# Altium schematic symbol library Connectors.SchLib: 119 symbols (part 1 of 2)
Pins are listed as number, name and electrical type; pins without a type are passive.

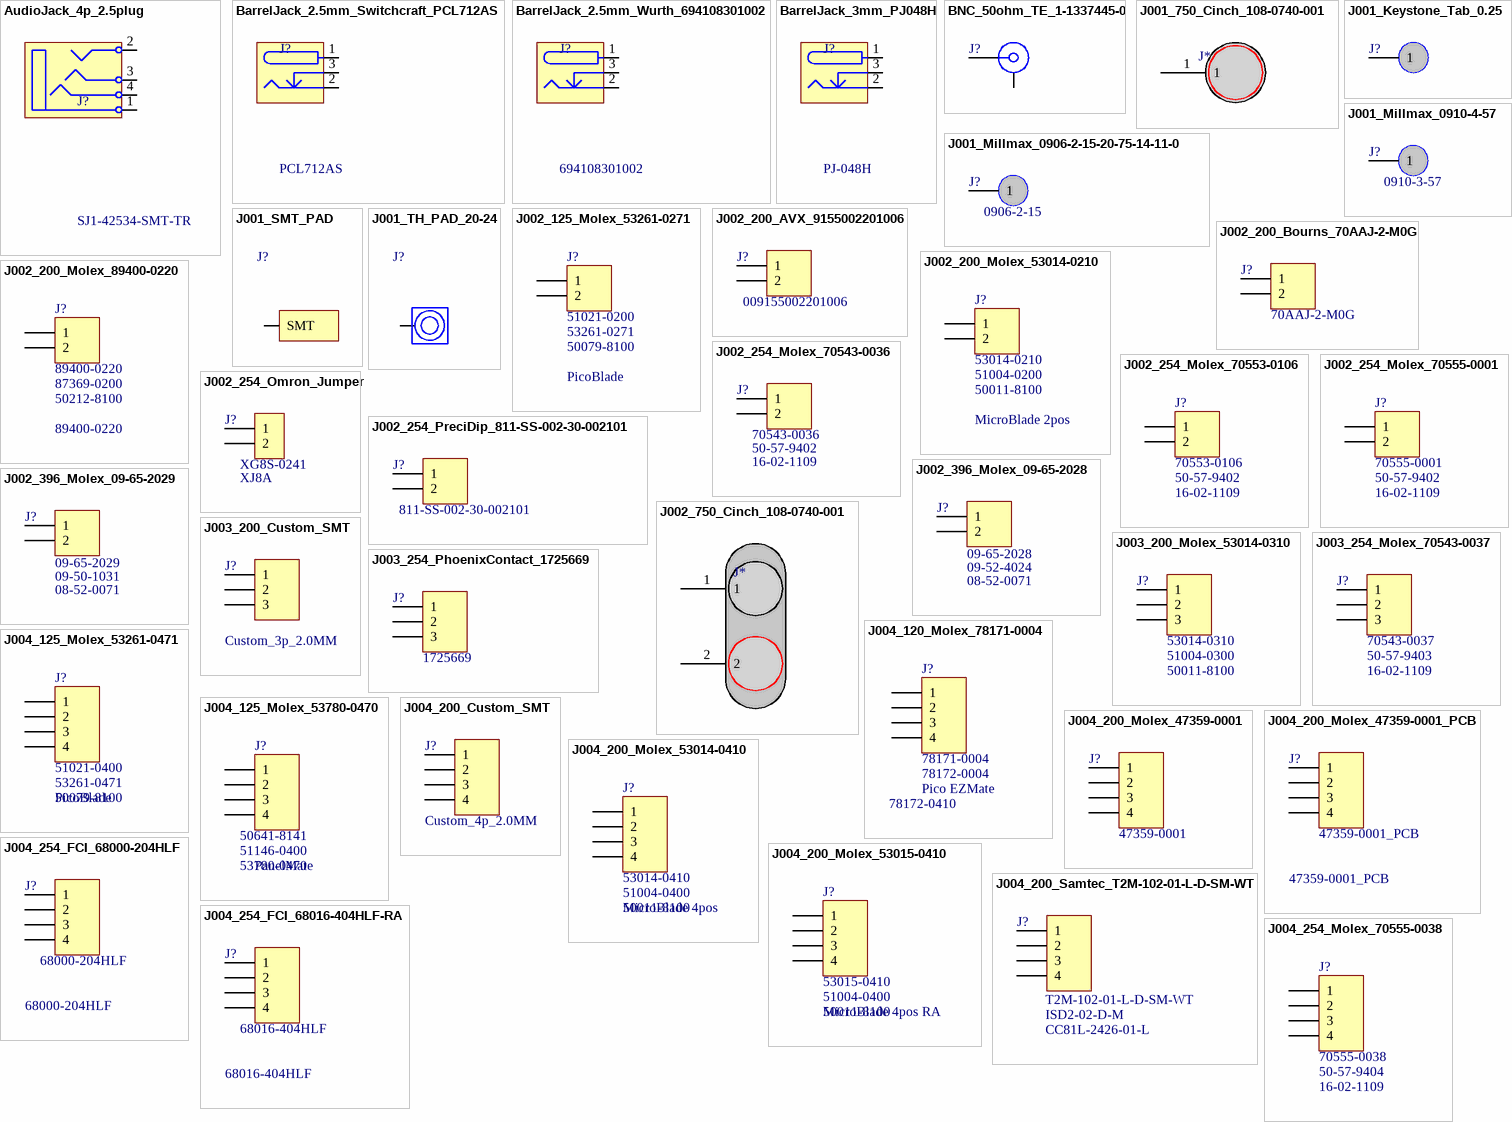
[diagram p0: symbols AudioJack_4p_2.5plug to J004_254_Molex_70555-0038]

## AudioJack_4p_2.5plug
designator J?, comment SJ1-42534-SMT-TR
Connector Audio Jack,4 conductor, 2.5mm, SMD; Manufacturer: CUI Inc.; HelpURL: http://www.cui.com/product/resource/sj1-4253x-smt-series.pdf; PackageDescription: SMT; Part Number: SJ1-42534-SMT-TR
footprint Audiojack_4pole_2.5mm (Audiojack 4 poles 2.5mm plug)
pins: 1, 2, 3, 4

## BarrelJack_2.5mm_Switchcraft_PCL712AS
designator J?, comment PCL712AS
Connector, Barrel Jack, 2.5mm, Sealed, Panel Mnt, TH; Manufacturer: Switchcraft; HelpURL: http://www.digikey.com/product-search/en?keywords=PCL712AS; PackageDescription: TH; Part Number: PCL712AS
footprint Switchcraft_PCL7xx (Barrel Jack, Sealed, Vertical TH)
pins: 1 (power), 2 (power), 3 (power)

## BarrelJack_2.5mm_Wurth_694108301002
designator J?, comment 694108301002
Connector, Barrel Jack, 2.5mm x 9.1mm, RA, TH; Manufacturer: Wurth Electronics; HelpURL: http://www.digikey.com/product-search/en?keywords=694108301002; PackageDescription: TH; Part Number: 694108301002
footprint Wurth_694108301002 (WR-DC_DC Power Jack_Right Angled_THT Center Pin ?2.5_Plug ID ?2.05_Plug OD ?5.5)
pins: 1 (power), 2 (power), 3 (power)

## BarrelJack_3mm_PJ048H
designator J?, comment PJ-048H
Connector, Barrel Jack, 3mm x 9.1mm, TH; Manufacturer: CUI Inc.; HelpURL: http://www.digikey.com/product-search/en?keywords=PJ-048H; PackageDescription: TH; Part Number: PJ-048H
footprint CUI_BarrelJack_3.0mm (Barrel Jack, 3.0mm x 9.1mm through hole)
pins: 1 (power), 2 (power), 3 (power)

## BNC_50ohm_TE_1-1337445-0
designator J?, comment 1-1337445-0  (value not drawn)
Connector, BNC, 50ohm, Straight Jack; Manufacturer: TE Connectivity; PackageDescription: TH; Notes: *; HelpURL: C:\Dropbox\Component Datasheets\(J) Connectors\TE_BNC50__1337445; ContactReel: *; ComponentLink1Description: Supplier Link; ComponentLink1URL: http://www.digikey.com/product-detail/en/1-1337445-0/A101972-ND/1889630; Mate Housing: BNC; ContactBulk: *; Part Number: 1-1337445-0
footprint BNC_Straight_Jack (BNC 50R Straight Jack, 12x12x15mm)
pins: 1, MH

## J001_750_Cinch_108-0740-001
designator J*  (value not drawn)
Single Banana Jack
footprint J001_750_Cinch_108-0740-001 (J001_175_Cinch_Banana-Jack)
pins: 1

## J001_Keystone_Tab_0.25
designator J?, comment 1289-ST  (value not drawn)
Connector, Quick Connect Tab, 0.25", Vertical; Manufacturer: Keystone Electronics; Notes: 0.25 Spade; PackageDescription: TH Vertical; ContactReel: *; ComponentLink1Description: Supplier Link; ComponentLink1URL: http://www.digikey.com/product-detail/en/1289-ST/36-1289-ST-ND/303578; ContactBulk: *; Part Number: 1289-ST
signal-integrity model Connector
footprint Keystone_TAB_VERT_0.25 (Quick Connect TAB 0.25")
pins: 1

## J001_Millmax_0906-2-15-20-75-14-11-0
designator J?, comment Notes: 0906-2-15  (hidden comment: 0906-2-15-20-75-14-11-0)
Connector, Spring Load, 0.197 Long, 0.055 Max Stroke, TH; Manufacturer: Mill-Max; PackageDescription: SMT; ContactReel: *; ComponentLink1Description: Supplier Link; ComponentLink1URL: http://www.digikey.com/product-detail/en/0906-2-15-20-75-14-11-0/ED8182-ND/1147050; ContactBulk: *; Part Number: 0906-2-15-20-75-14-11-0
signal-integrity model Connector
footprint MILL-MAX_1P-0906-2-15 (Pogo pin, Through Hole, 0.069 x 0.020)
pins: 1

## J001_Millmax_0910-4-57
designator J?, comment Notes: 0910-3-57  (hidden comment: 0910-3-57-20-75-14-11-0)
Connector, Spring Load, 0.217 SMD; Manufacturer: Mill-Max; PackageDescription: SMT; ContactReel: *; ComponentLink1Description: Supplier Link; ComponentLink1URL: http://www.digikey.com/product-detail/en/0910-3-57-20-75-14-11-0/ED90456TR-ND/2242384; ContactBulk: *; Part Number: 0910-3-57-20-75-14-11-0
signal-integrity model Connector
footprint MILL-MAX_1P-1.83 (Pogo pin, Surface Mount, 1.83DIA base)
footprint MILL-MAX_1P-1.83_PCB (Pogo pin, Surface Mount, 1.83DIA base)
pins: 1

## J001_SMT_PAD
designator J?, comment TP_Smt  (value not drawn)
Connector, 1pos, SMT Pad For Wires; Size: SMT
footprint SMT_PAD_125x50mil (Surface Mount Pad For Wire)
footprint SMT_PAD_100x25mil (Surface Mount Pad For Wire)
footprint SMT_PAD_100x50mil (Surface Mount Pad For Wire)
footprint SMT_PAD_150x80mil (Surface Mount Pad For Wire)
footprint SMT_PAD_150x60mil (Surface Mount Pad For Wire)
pins: 1 SMT

## J001_TH_PAD_20-24
designator J?, comment 35mil  (value not drawn)
Connector, 1pos, TH Pad For 20-24AWG Wires; Size: 35mil
footprint TH_20-24GA_WIRE (Through hole for 20-24AWG Wire)
pins: 1

## J002_125_Molex_53261-0271
designator J?, comment PicoBlade  Part Number: 53261-0271  Mate Housing: 51021-0200  ContactBulk: 50079-8100
Connector, header, 2pos, 1.25mm pitch; Manufacturer: Molex; ContactReel: 50079-8000; PackageDescription: SMT; Notes: *; HelpURL: C:\Dropbox\Component Datasheets\(J) Connectors\Molex_532610271_1.25mmp.pdf; ComponentLink1Description: Supplier Link; ComponentLink1URL: http://www.digikey.com/product-detail/en/0532610271/WM7620CT-ND/699107
signal-integrity model Connector
footprint Molex_2p-1.25_53261-0271 (Connector, PicoBlade header, surface mount, RA, 2 circuits, 1.25mm pitch)
pins: 1, 2

## J002_200_AVX_9155002201006
designator J?, comment 009155002201006
Connector, Spring Loaded, 2pos, 2.5mm pitch; Manufacturer: AVX; Mate Housing: PCB; PackageDescription: SMT; Notes: *; HelpURL: C:\Dropbox\Component Datasheets\(J) Connectors\AVX_battery-9155-1.pdf; ComponentLink1Description: Supplier Link; ComponentLink1URL: http://www.digikey.com/product-detail/en/009155002201006/478-4682-1-ND/1687181; Part Number: 009155002201006
footprint AVX_2P_2.5_9155 (Connector Battery 2pos 2.5mmp)
pins: 1, 2

## J002_200_Bourns_70AAJ-2-M0G
designator J?, comment 70AAJ-2-M0G
Connector, Spring Loaded, 2pos, 2.54mm pitch; Manufacturer: Bourns; Mate Housing: PCB; PackageDescription: SMT; Notes: *; HelpURL: C:\Dropbox\Component Datasheets\(J) Connectors\Bourns_70AAM.pdf; ComponentLink1Description: Supplier Link; ComponentLink1URL: http://www.digikey.com/product-detail/en/70AAJ-2-M0G/70AAJ-2-M0GCT-ND/3437846; Part Number: 70AAJ-2-M0G
footprint Bourns_2P-2.54_70AAJ-2-M0G (Connector Battery 2pos 2.54mmp)
pins: 1, 2

## J002_200_Molex_53014-0210
designator J?, comment MicroBlade 2pos  Part Number: 53014-0210  Mate Housing: 51004-0200  ContactBulk: 50011-8100
Connector, header, 2pos, 2.00mm pitch MicroBlade; Manufacturer: Molex; ContactReel: 50011-8000; PackageDescription: SMT; Notes: *; HelpURL: C:\Dropbox\Component Datasheets\(J) Connectors\Molex_530140610_sd.pdf; ComponentLink1Description: Supplier Link; ComponentLink1URL: http://www.digikey.com/product-search/en?vendor=0&keywords=53014-0210
footprint Molex_2P-2.00_53014-0210 (Connector Header 2pos 2mmp Vertical through hole)
pins: 1, 2

## J002_200_Molex_89400-0220
designator J?, comment 89400-0220  Mate Housing: 87369-0200  ContactBulk: 50212-8100
Connector, header, 2pos, 2.00mm pitch; Manufacturer: Molex; PackageDescription: TH; Notes: *; HelpURL: http://www.molex.com/pdm_docs/sd/894000220_sd.pdf; ComponentLink1Description: Supplier Link; ComponentLink1URL: http://www.digikey.com/product-detail/en/molex-llc/0894000220/WM4340-ND/2421271; Part Number: 89400-0220
footprint Molex_2P-2.00_89400-0220 (Connector Header 2pos 2mmp Vertical through hole)
pins: 1, 2

## J002_254_Molex_70543-0036
designator J?, comment Mate Housing: 50-57-9402  ContactBulk: 16-02-1109  (hidden comment: 70543-0036)
Connector, header, 2pos, 2.54mm pitch C-grid, w/pins; Manufacturer: Molex; PackageDescription: TH; Notes: *; HelpURL: http://www.molex.com/pdm_docs/sd/705550001_sd.pdf; ContactReel: 16-02-0082; ComponentLink1Description: Supplier Link; ComponentLink1URL: http://www.digikey.com/product-detail/en/molex-llc/0705430036/WM4824-ND/313739; Part Number: 70543-0036
footprint Molex_2P-2.54_70543-0036 (Connector Header 2pos 2.54mmp vertical through hole)
pins: 1, 2

## J002_254_Molex_70553-0106
designator J?, comment Mate Housing: 50-57-9402  ContactBulk: 16-02-1109  (hidden comment: 70553-0106)
Connector, header, 2pos, 2.54mm pitch C-grid; Manufacturer: Molex; PackageDescription: SMT; Notes: *; HelpURL: http://www.molex.com/pdm_docs/sd/705530106_sd.pdf; ContactReel: 16-02-0082; ComponentLink1Description: Supplier Link; ComponentLink1URL: http://www.digikey.com/product-search/en?keywords=70553-0106; Part Number: 70553-0106
footprint Molex_2P-2.54_70553-0106 (Connector Header 2pos 2.54mmp right angle through hole)
pins: 1, 2

## J002_254_Molex_70555-0001
designator J?, comment Mate Housing: 50-57-9402  ContactBulk: 16-02-1109  (hidden comment: 70555-0001)
Connector, header, 2pos, 2.54mm pitch C-grid, w/pins; Manufacturer: Molex; PackageDescription: SMT; Notes: *; HelpURL: http://www.molex.com/pdm_docs/sd/705550001_sd.pdf; ContactReel: 16-02-0082; ComponentLink1Description: Supplier Link; ComponentLink1URL: http://www.digikey.com/product-detail/en/molex-llc/0705550001/WM4164-ND/1643398; Part Number: 70555-0001
footprint Molex_2P-2.54_70555-0001 (Connector Header 2pos 2.54mmp right angle through hole)
pins: 1, 2

## J002_254_Omron_Jumper
designator J?, comment Mate Housing: XJ8A  (hidden comment: XG8S-0241)
Connector, header, 2pos, 2.54mm, Jumper; Manufacturer: Omron Electronics; PackageDescription: TH; Notes: *; HelpURL: http://www.omron.com/ecb/products/pdf/en-xj8.pdf; ComponentLink1Description: Supplier Link; ComponentLink1URL: http://www.digikey.com/product-detail/en/omron-electronics-inc-emc-div/XG8S-0241/Z5374-ND/4947394; Part Number: XG8S-0241
footprint Generic_2P-2.54 (Connector; Header; 2 Position)
pins: 1, 2

## J002_254_PreciDip_811-SS-002-30-002101
designator J?, comment 811-SS-002-30-002101
Connector, Spring Loaded Pogo, 2pos, 2.54mm pitch; Manufacturer: Preci-Dip; Mate Housing: PCB; PackageDescription: SMT; Notes: *; HelpURL: http://www.precidip.com/en/Products/Spring-Loaded-Connectors/pview/811-SS-NNN-30-XXX101.html; ComponentLink1Description: Supplier Link; ComponentLink1URL: http://www.digikey.com/product-search/en?keywords=811-SS-002-30-002101; Part Number: 811-SS-002-30-002101
footprint PreciDip_2P_811-SS-002 (Connector Spring Loaded 2pos 2.54mmp)
pins: 1, 2

## J002_396_Molex_09-65-2028
designator J?, comment Mate Housing: 09-52-4024  ContactBulk: 08-52-0071  (hidden comment: 09-65-2028)
Connector, header, 2pos, 3.96mm pitch, Unshrouded, Friction Lock; Manufacturer: Molex; ContactReel: NA; PackageDescription: TH; Notes: *; HelpURL: http://www.molex.com/pdm_docs/sd/009652028_sd.pdf; ComponentLink1Description: Supplier Link; ComponentLink1URL: http://www.digikey.com/product-detail/en/molex-llc/0009652028/WM18823-ND/1220238; Part Number: 09-65-2028
footprint Molex_2P-3.96_09-65-2028 (Connector Header 2pos 3.96mmp vertical through hole)
pins: 1, 2

## J002_396_Molex_09-65-2029
designator J?, comment Mate Housing: 09-50-1031  ContactBulk: 08-52-0071  (hidden comment: 09-65-2029)
Connector, header, 2pos, 3.96mm pitch, Unshrouded, Missing Pin, Friction Lock; Manufacturer: Molex; ContactReel: NA; PackageDescription: TH; Notes: *; HelpURL: http://www.molex.com/pdm_docs/sd/009652029_sd.pdf; ComponentLink1Description: Supplier Link; ComponentLink1URL: http://www.digikey.com/product-detail/en/molex-llc/0009652029/WM2338-ND/2405448; Part Number: 09-65-2029
footprint Molex_2P-3.96_09-65-2029 (Connector Header 2pos 3.96mmp vertical through hole missing pin)
pins: 1, 2

## J002_750_Cinch_108-0740-001
designator J*  (value not drawn)
Dual Banana Jack
footprint J002_750_Cinch_108-0740-001 (J002_750_Cinch_Banana-Jack)
pins: 1, 2

## J003_200_Custom_SMT
designator J?, comment Part Number: Custom_3p_2.0MM  (hidden comment: custom_3p_2mm)
Connector, SMT, 3pos, 2.0mm; Manufacturer: Custom; ContactBulk: NA; PackageDescription: SMT; Notes: *
footprint Custom_3p-2MM (Custom 3p SMT Pad For Wire)
pins: 1, 2, 3

## J003_200_Molex_53014-0310
designator J?, comment Mate Housing: 51004-0300  ContactBulk: 50011-8100  (hidden comment: 53014-0310)
Connector, header, 3pos, 2.00mm pitch MicroBlade; Manufacturer: Molex; ContactReel: 50011-8000; PackageDescription: SMT; Notes: *; HelpURL: http://www.molex.com/pdm_docs/sd/530140210_sd.pdf; ComponentLink1Description: Supplier Link; ComponentLink1URL: http://www.digikey.com/product-search/en?keywords=53014-0310; Part Number: 53014-0310
footprint Molex_3P-2.00_53014-0310 (Connector Header 3pos 2mmp Vertical through hole)
pins: 1, 2, 3

## J003_254_Molex_70543-0037
designator J?, comment Mate Housing: 50-57-9403  ContactBulk: 16-02-1109  (hidden comment: 70543-0037)
Connector, header, 3pos, Vert, 2.54mm pitch C-grid; Manufacturer: Molex; PackageDescription: SMT; Notes: *; HelpURL: http://www.molex.com/pdm_docs/sd/705430037_sd.pdf; ContactReel: 16-02-0082; ComponentLink1Description: Supplier Link; ComponentLink1URL: http://www.digikey.com/product-detail/en/molex-llc/0705430037/WM4825-ND/313740; Part Number: 70543-0037
footprint Molex_3P-2.54_70543-0037 (Connector Header 3pos 2.54mmp vertical through hole)
pins: 1, 2, 3

## J003_254_PhoenixContact_1725669
designator J?, comment Part Number: 1725669  (hidden comment: custom_3p_2mm)
Connector, Terminal Block, 3pos, 2.54mm; Manufacturer: Phoenix Contact; Mate Housing: Wires; PackageDescription: TH; Notes: *; ComponentLink1Description: Supplier Link; ComponentLink1URL: http://www.digikey.com/product-search/en?vendor=0&keywords=1725669; ContactBulk: *; ContactReel: *
footprint PHOENIX_3P-2.54_1725669 (Connector, Terminal Block, 3 Position)
pins: 1, 2, 3

## J004_120_Molex_78171-0004
designator J?, comment Pico EZMate  ContactReel: 78172-0410  Part Number: 78171-0004  Mate Housing: 78172-0004
Connector, header, 4pos, 1.2mm pitch PicoEZMate; Manufacturer: Molex; ContactBulk: NA; PackageDescription: SMT; Notes: *; HelpURL: C:\Dropbox\Component Datasheets\(J) Connectors\Molex_781710004.pdf; ComponentLink1Description: Supplier Link; ComponentLink1URL: http://www.digikey.com/product-detail/en/0781710004/WM4460CT-ND/2424929
pins: 1, 2, 3, 4

## J004_125_Molex_53261-0471
designator J?, comment PicoBlade  Part Number: 53261-0471  Mate Housing: 51021-0400  ContactBulk: 50079-8100
Connector, header, 4pos, 1.25mm pitch; Manufacturer: Molex; ContactReel: 50079-8000; PackageDescription: SMT; Notes: *; HelpURL: C:\Dropbox\Component Datasheets\(J) Connectors\Molex_532610271_1.25mmp.pdf; ComponentLink1Description: Supplier Link; ComponentLink1URL: http://www.digikey.com/product-detail/en/0532610471/WM7622CT-ND/699109
signal-integrity model Connector
footprint Molex_4p-1.25_53261-0471 (Connector, PicoBlade header, surface mount, RA, 4 circuits, 1.25mm pitch)
pins: 1, 2, 3, 4

## J004_125_Molex_53780-0470
designator J?, comment PanelMate  Part Number: 53780-0470  Mate Housing: 51146-0400  ContactBulk: 50641-8141
Connector, header, 4pos, 1.25mm pitch; Manufacturer: Molex; ContactReel: 50641-8041; PackageDescription: SMT; Notes: *; HelpURL: C:\Dropbox\Component Datasheets\(J) Connectors\Molex_53780-xxxx.pdf; ComponentLink1Description: Supplier Link; ComponentLink1URL: http://www.digikey.com/product-detail/en/0537800470/WM7660CT-ND/711493
pins: 1, 2, 3, 4

## J004_200_Custom_SMT
designator J?, comment Part Number: Custom_4p_2.0MM  (hidden comment: custom_3p_2mm)
Connector, SMT, 4pos, 2.0mm; Manufacturer: Custom; ContactBulk: NA; PackageDescription: SMT; Notes: *
footprint Custom_4p-2MM (Custom 4p SMT Pad For Wire)
pins: 1, 2, 3, 4

## J004_200_Molex_47359-0001
designator J?, comment 47359-0001
Connector, Battery, 4pos, 2.00mm pitch; Manufacturer: Molex; PackageDescription: SMT; Notes: *; HelpURL: C:\Dropbox\Component Datasheets\(J) Connectors\Molex_473590001_sd.pdf; ContactReel: *; ComponentLink1Description: Supplier Link; ComponentLink1URL: http://www.mouser.com/ProductDetail/Molex/47359-0001/?qs=%2fha2pyFadugrTonzSuwdMWfHugKuxF1oqURBYPSAB0AYN8o1e8hsRA%3d%3d; Mate Housing: *; ContactBulk: *; Part Number: 47359-0001
footprint Molex_4P-2.00_47359-0001 (Connector Battery 4pos 2mmp SMT)
pins: 1, 2, 3, 4

## J004_200_Molex_47359-0001_PCB
designator J?, comment 47359-0001_PCB
Connector, PCB Battery, 4pos, 2.00mm pitch; Manufacturer: Molex; PackageDescription: SMT; Notes: *; HelpURL: C:\Dropbox\Component Datasheets\(J) Connectors\Molex_473590001_sd.pdf; ContactReel: *; ComponentLink1Description: Supplier Link; ComponentLink1URL: http://www.mouser.com/ProductDetail/Molex/47359-0001/?qs=%2fha2pyFadugrTonzSuwdMWfHugKuxF1oqURBYPSAB0AYN8o1e8hsRA%3d%3d; Mate Housing: 47359-0001; ContactBulk: *; Part Number: 47359-0001_PCB
pins: 1, 2, 3, 4

## J004_200_Molex_53014-0410
designator J?, comment MicroBlade 4pos  Part Number: 53014-0410  Mate Housing: 51004-0400  ContactBulk: 50011-8100
Connector, header, 4pos, 2.00mm pitch MicroBlade; Manufacturer: Molex; ContactReel: 50011-8000; PackageDescription: SMT; Notes: *; HelpURL: C:\Dropbox\Component Datasheets\(J) Connectors\Molex_530140610_sd.pdf; ComponentLink1Description: Supplier Link; ComponentLink1URL: http://www.digikey.com/product-search/en?x=0&y=0&lang=en&site=us&KeyWords=53014-0410
footprint Molex_4P-2.00_53014-0410 (Connector Header 4pos 2mmp Vertical through hole)
pins: 1, 2, 3, 4

## J004_200_Molex_53015-0410
designator J?, comment MicroBlade 4pos RA  Part Number: 53015-0410  Mate Housing: 51004-0400  ContactBulk: 50011-8100
Connector, header, 4pos, 2.00mm pitch, RA, MicroBlade; Manufacturer: Molex; ContactReel: 50011-8000; PackageDescription: TH; Notes: *; HelpURL: C:\Dropbox\Component Datasheets\(J) Connectors\Molex_530150410_sd.pdf; ComponentLink1Description: Supplier Link; ComponentLink1URL: http://www.digikey.com/product-search/en?x=0&y=0&lang=en&site=us&KeyWords=53015-0410
footprint Molex_4P-2.00_RA_53015-0410 (Connector Header 4pos 2mmp RA through hole)
pins: 1, 2, 3, 4

## J004_200_Samtec_T2M-102-01-L-D-SM-WT
designator J?, comment Mate Housing: ISD2-02-D-M  ContactBulk: CC81L-2426-01-L  (hidden comment: T2M-102-01-L-D-SM-WT)
Connector, Header, 4pos (2x2), 2.00mm Pitch, Samtec T2M; ContactReel: CC81R-2426-01-L; PackageDescription: SMT; Notes: *; Manufacturer: Samtec; HelpURL: https://www.samtec.com/products/t2m; ComponentLink1Description: Supplier Link; Part Number: T2M-102-01-L-D-SM-WT
footprint Samtec_4P-2.00_T2M_SMT (Connector Header 4pos dual row 2.0mmp SMT)
pins: 1, 2, 3, 4

## J004_254_FCI_68000-204HLF
designator J?, comment 68000-204HLF
Connector, 4pos, 2.54mm pitch, header, TH; Manufacturer: FCI; ContactReel: NA; PackageDescription: TH; Notes: *; HelpURL: C:\Dropbox\Component Datasheets\(J) Connectors\FCI_68000-412HLF.pdf; ComponentLink1Description: Supplier Link; ComponentLink1URL: http://www.digikey.com/product-detail/en/68000-204HLF/609-3255-ND/1878484; Mate Housing: NA; ContactBulk: NA; Part Number: 68000-204HLF
footprint Generic_4P-2.54 (Connector; Header; 4 Position)
pins: 1, 2, 3, 4

## J004_254_FCI_68016-404HLF-RA
designator J?, comment 68016-404HLF
Connector, 4pos, 2.54mm pitch, header, TH, R/A; Manufacturer: FCI; ContactReel: NA; PackageDescription: TH; Notes: *; ComponentLink1Description: Supplier Link; ComponentLink1URL: http://www.digikey.com/product-detail/en/amphenol-fci/68016-404HLF/609-3407-ND/1491751; Mate Housing: NA; ContactBulk: NA; Part Number: 68016-404HLF
footprint Generic_4P-2.54 R/A (Connector; Header; 4 Position)
pins: 1, 2, 3, 4

## J004_254_Molex_70555-0038
designator J?, comment Mate Housing: 50-57-9404  ContactBulk: 16-02-1109  (hidden comment: 70555-0038)
Connector, header, 4pos, 2.54mm pitch C-grid, w/pins; Manufacturer: Molex; PackageDescription: SMT; Notes: *; HelpURL: http://www.molex.com/pdm_docs/sd/705550001_sd.pdf; ContactReel: 16-02-0082; ComponentLink1Description: Supplier Link; ComponentLink1URL: http://www.digikey.com/product-detail/en/molex-llc/0705550038/WM4177-ND/1643411; Part Number: 70555-0038
footprint Molex_4P-2.54_70555-0038 (Connector Header 4pos 2.54mmp right angle through hole)
pins: 1, 2, 3, 4

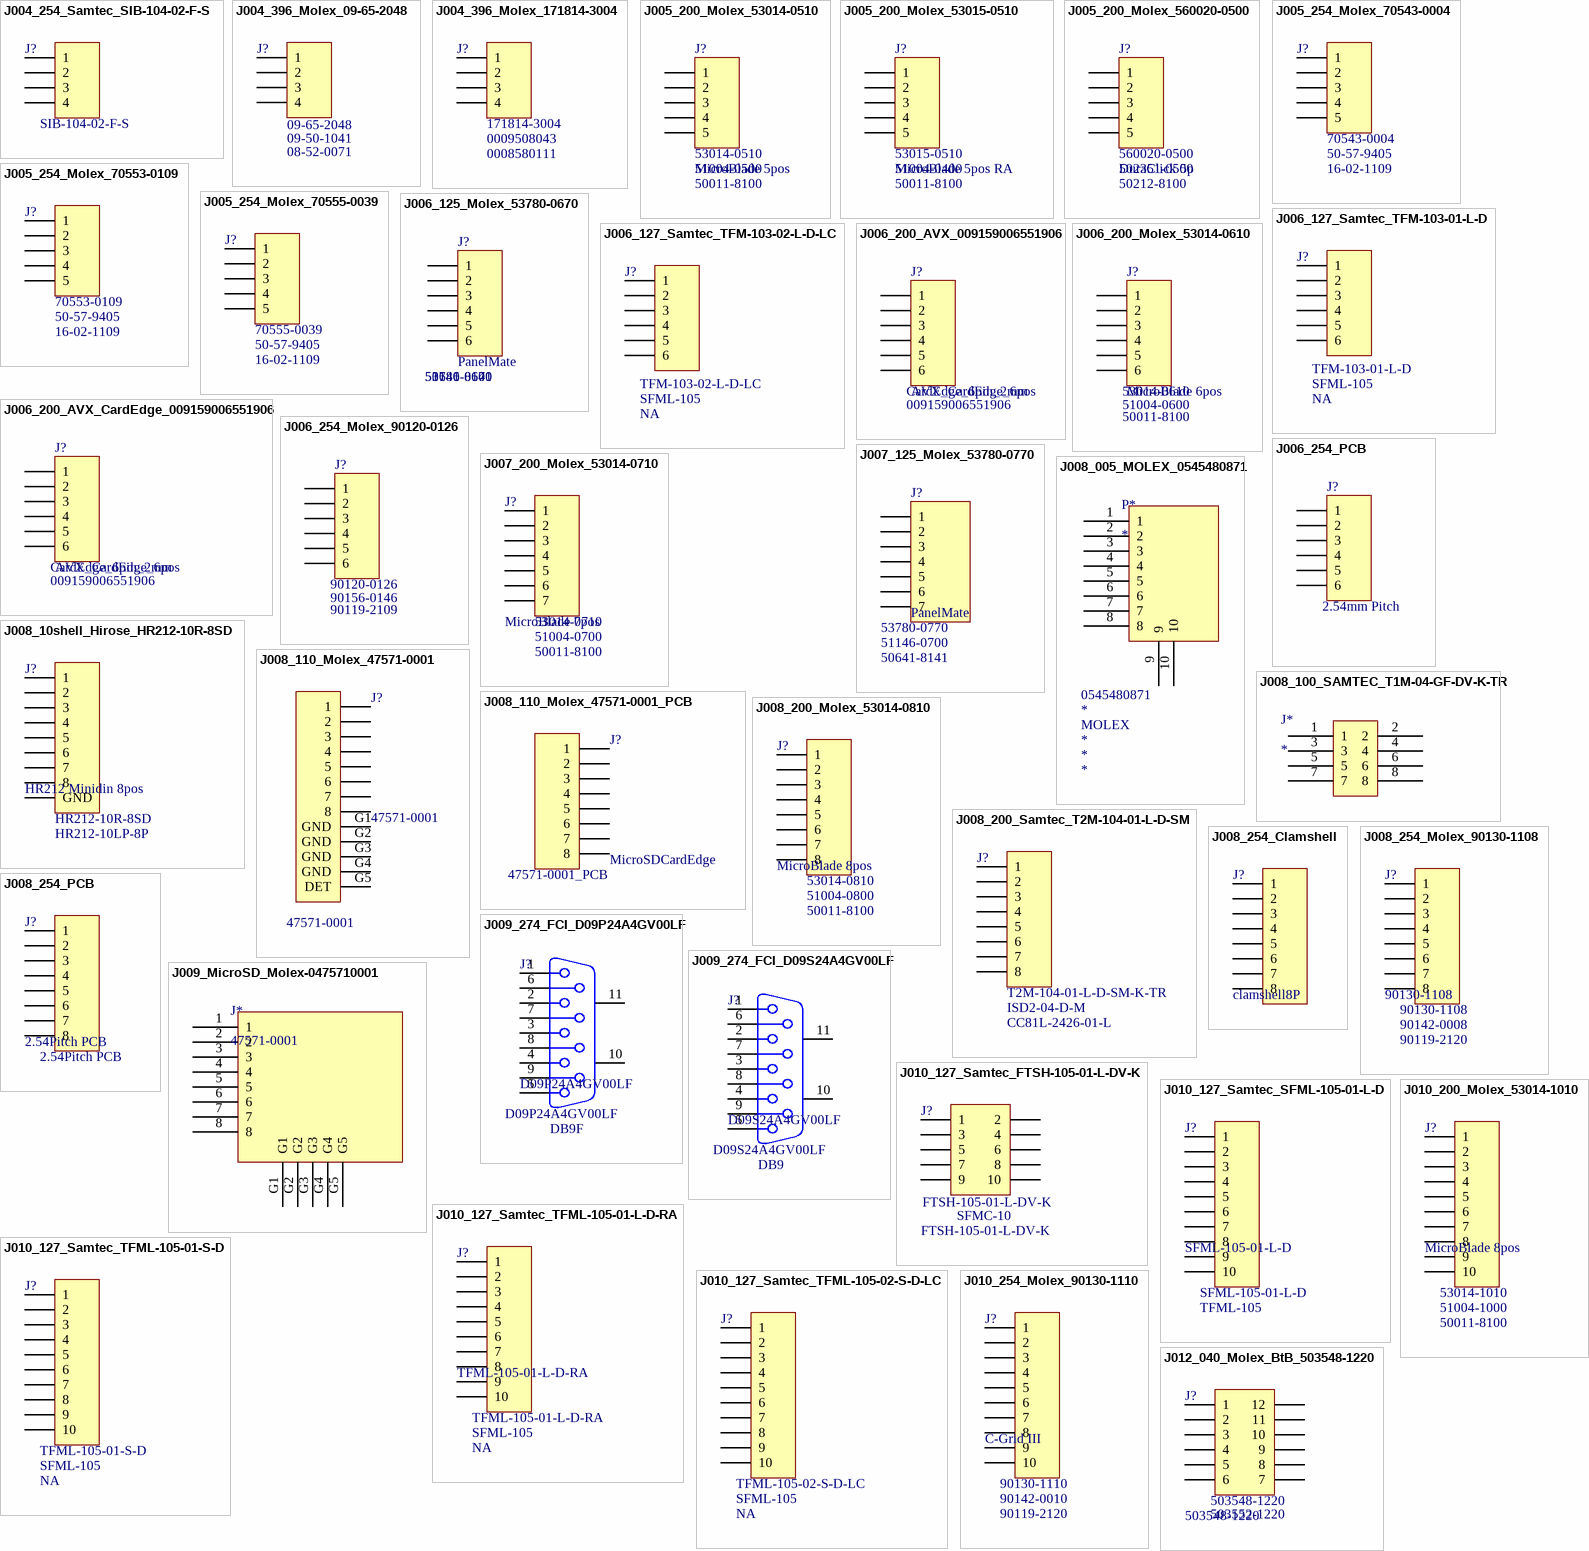
[diagram p1: symbols J004_254_Samtec_SIB-104-02-F-S to J012_040_Molex_BtB_503548-1220]

## J004_254_Samtec_SIB-104-02-F-S
designator J?, comment SIB-104-02-F-S
Connector, Spring, 4pos, 2.54mm pitch; Manufacturer: Samtec; Mate Housing: PCB; PackageDescription: SMT; Notes: *; HelpURL: http://suddendocs.samtec.com/prints/sib-1xx-xx-xx-s-xx-xx-mkt.pdf; ContactReel: *; ComponentLink1Description: Supplier Link; ComponentLink1URL: http://www.digikey.com/product-search/en?keywords=SIB-104-02-F-S; ContactBulk: *; Part Number: SIB-104-02-F-S
footprint Samtec_4P-2.54_SIB-104-02-F-S (Connector Spring  4pos 2.54mmp SMT)
pins: 1, 2, 3, 4

## J004_396_Molex_09-65-2048
designator J?, comment Mate Housing: 09-50-1041  ContactBulk: 08-52-0071  (hidden comment: 09-65-2048)
Connector, header, 4pos, 3.96mm pitch, Unshrouded, Missing Pin, Friction Lock; Manufacturer: Molex; ContactReel: NA; PackageDescription: TH; Notes: *; HelpURL: http://www.molex.com/pdm_docs/sd/009652048_sd.pdf; ComponentLink1Description: Supplier Link; ComponentLink1URL: http://www.digikey.com/product-detail/en/molex-llc/0009652048/WM18825-ND/1220240; Part Number: 09-65-2048
footprint Molex_4P-3.96_09-65-2048 (Connector Header 4pos 3.96mmp vertical through hole missing pin)
pins: 1, 2, 3, 4

## J004_396_Molex_171814-3004
designator J?, comment Mate Housing: 0009508043  ContactBulk: 0008580111  (hidden comment: 171814-3004)
Connector, header, 4pos, 3.96mm pitch, RA, Unshrouded; Manufacturer: Molex; ContactReel: NA; PackageDescription: TH; Notes: *; HelpURL: http://www.molex.com/molex/products/datasheet.jsp?part=active/1718143004_PCB_HEADERS.xml; ComponentLink1Description: Supplier Link; ComponentLink1URL: http://www.digikey.com/product-detail/en/molex-llc/1718143004/WM10570CT-ND/4879284; Part Number: 171814-3004
footprint Molex_4P-3.96_1718143004 (Connector Header 4pos 3.96mmp right angle through hole)
pins: 1, 2, 3, 4

## J005_200_Molex_53014-0510
designator J?, comment MicroBlade 5pos  Part Number: 53014-0510  Mate Housing: 51004-0500  ContactBulk: 50011-8100
Connector, header, 5pos, 2.00mm pitch MicroBlade; Manufacturer: Molex; ContactReel: 50011-8000; PackageDescription: SMT; Notes: *; HelpURL: C:\Dropbox\Component Datasheets\(J) Connectors\Molex_530140610_sd.pdf; ComponentLink1Description: Supplier Link; ComponentLink1URL: http://www.digikey.com/product-search/en?vendor=0&keywords=53014-0510
footprint Molex_5P-2.00_53014-0510 (Connector Header 5pos 2mmp Vertical through hole)
pins: 1, 2, 3, 4, 5

## J005_200_Molex_53015-0510
designator J?, comment MicroBlade 5pos RA  Part Number: 53015-0510  Mate Housing: 51004-0400  ContactBulk: 50011-8100
Connector, header, 5pos, 2.00mm pitch, RA, MicroBlade; Manufacturer: Molex; ContactReel: 50011-8000; PackageDescription: TH; Notes: *; HelpURL: C:\Dropbox\Component Datasheets\(J) Connectors\Molex_530150410_sd.pdf; ComponentLink1Description: Supplier Link; ComponentLink1URL: http://www.digikey.com/product-search/en?WT.z_header=search_go&lang=en&site=us&keywords=53015-0510&x=0&y=0&formaction=on
footprint Molex_5P-2.00_RA_53015-0510 (Connector Header 5pos 2mmp RA through hole)
pins: 1, 2, 3, 4, 5

## J005_200_Molex_560020-0500
designator J?, comment DuraClick 5p  Part Number: 560020-0500  Mate Housing: 502351-0500  ContactBulk: 50212-8100
Connector, header, 5pos, 2.00mm pitch Duraclick, SMT; Manufacturer: Molex; ContactReel: 50212-8000; PackageDescription: SMT; Notes: *; HelpURL: C:\Dropbox\Component Datasheets\(J) Connectors\Molex_5600200600.pdf; ComponentLink1Description: Supplier Link; ComponentLink1URL: http://www.digikey.com/product-search/en?vendor=0&keywords=53014-0510
footprint Molex_5P-2.00_560020-0500 (Connector Header 5pos 2mmp Vertical SMT)
pins: 1, 2, 3, 4, 5

## J005_254_Molex_70543-0004
designator J?, comment Mate Housing: 50-57-9405  ContactBulk: 16-02-1109  (hidden comment: 70543-0004)
Connector, header, 5pos, 2.54mm pitch C-grid, Vert; Manufacturer: Molex; PackageDescription: SMT; Notes: *; HelpURL: http://www.molex.com/pdm_docs/sd/705430001_sd.pdf; ContactReel: 16-02-0082; ComponentLink1Description: Supplier Link; ComponentLink1URL: http://www.digikey.com/product-search/en?keywords=70543-0004; Part Number: 70543-0004
footprint Molex_5P-2.54_70543-0004 (Connector Header 5pos 2.54mmp vertical through hole)
pins: 1, 2, 3, 4, 5

## J005_254_Molex_70553-0109
designator J?, comment Mate Housing: 50-57-9405  ContactBulk: 16-02-1109  (hidden comment: 70553-0109)
Connector, header, 5pos, 2.54mm pitch C-grid; Manufacturer: Molex; PackageDescription: SMT; Notes: *; HelpURL: http://www.molex.com/pdm_docs/sd/705530106_sd.pdf; ContactReel: 16-02-0082; ComponentLink1Description: Supplier Link; ComponentLink1URL: http://www.digikey.com/product-search/en?keywords=70553-0109; Part Number: 70553-0109
footprint Molex_5P-2.54_70553-0109 (Connector Header 5pos 2.54mmp right angle through hole)
pins: 1, 2, 3, 4, 5

## J005_254_Molex_70555-0039
designator J?, comment Mate Housing: 50-57-9405  ContactBulk: 16-02-1109  (hidden comment: 70555-0039)
Connector, header, 5pos, 2.54mm pitch C-grid, w/pins; Manufacturer: Molex; PackageDescription: SMT; Notes: *; HelpURL: http://www.molex.com/pdm_docs/sd/705550001_sd.pdf; ContactReel: 16-02-0082; ComponentLink1Description: Supplier Link; ComponentLink1URL: http://www.digikey.com/product-detail/en/molex-llc/0050579405/WM2903-ND/115035; Part Number: 70555-0039
footprint Molex_5P-2.54_70555-0039 (Connector Header 5pos 2.54mmp right angle through hole)
pins: 1, 2, 3, 4, 5

## J006_125_Molex_53780-0670
designator J?, comment PanelMate  Part Number: 53780-0670  Mate Housing: 51146-0600  ContactBulk: 50641-8141
Connector, header, 6pos, 1.25mm pitch; Manufacturer: Molex; ContactReel: 50641-8041; PackageDescription: SMT; Notes: *; HelpURL: C:\Dropbox\Component Datasheets\(J) Connectors\Molex_53780-xxxx.pdf; ComponentLink1Description: Supplier Link; ComponentLink1URL: http://www.digikey.com/product-detail/en/0537800670/WM7603CT-ND/699063
footprint Molex_6p-1.25_53780-0670 (Molex Panelmate Connector 6p 1.25mm pitch)
pins: 1, 2, 3, 4, 5, 6

## J006_127_Samtec_TFM-103-01-L-D
designator J?, comment Mate Housing: SFML-105  ContactBulk: NA  (hidden comment: TFM-103-01-L-D)
Connector, header, 6pos, 1.27mm pitch, Vertical, TH; Manufacturer: Samtec; PackageDescription: Through hole; Notes: *; HelpURL: http://suddendocs.samtec.com/prints/tfm-1xx-xx-x-s-ra-mkt.pdf; ContactReel: NA; ComponentLink1Description: Manufacturer Link; ComponentLink1URL: https://www.samtec.com/products/tfm#related; Part Number: TFM-103-01-L-D
footprint Samtec_6P-1.27_TFM-103_TH (Connector Header 6pos dual row 1.27mmp Through Hole No Locking clip)
pins: 1, 2, 3, 4, 5, 6

## J006_127_Samtec_TFM-103-02-L-D-LC
designator J?, comment Mate Housing: SFML-105  ContactBulk: NA  (hidden comment: TFM-103-02-L-D-LC)
Connector, header, 6pos, 1.27mm pitch, Vertical, TFM; Manufacturer: Samtec; PackageDescription: SMT; Notes: *; HelpURL: http://suddendocs.samtec.com/prints/tfm-1xx-xx-x-s-ra-mkt.pdf; ContactReel: NA; ComponentLink1Description: Manufacturer Link; ComponentLink1URL: https://www.samtec.com/products/tfm#related; Part Number: TFM-103-02-L-D-LC
footprint Samtec_6P-1.27_TFM-103 (Connector Header 6pos dual row 1.27mmp surface mount)
pins: 1, 2, 3, 4, 5, 6

## J006_200_AVX_009159006551906
designator J?, comment AVX_CardEdge_6pos  Part Number: CardEdge_6pin_2mm  Mate Housing: 009159006551906
Connector, Card Edge, 6pos, 2.00mm pitch; Manufacturer: AVX; PackageDescription: SMT; Notes: *; HelpURL: C:\Dropbox\Component Datasheets\(J) Connectors\AVX_Card_Edge-293325.pdf; ContactReel: *; ComponentLink1Description: Supplier Link; ComponentLink1URL: http://www.mouser.com/ProductDetail/AVX/009159006551906/?qs=IYA7j3WQo68A6UaXX3SSZA%3D%3D; ContactBulk: *
footprint AVX_6P-2.00_Cardedge (Connector Card Edge 6pos 2mmp)
pins: 1, 2, 3, 4, 5, 6

## J006_200_AVX_CardEdge_009159006551906
designator J?, comment AVX_CardEdge_6pos  Part Number: CardEdge_6pin_2mm  Mate Housing: 009159006551906
Connector, Card Edge, 6pos, 2.00mm pitch; Manufacturer: AVX; PackageDescription: SMT; Notes: *; HelpURL: C:\Dropbox\Component Datasheets\(J) Connectors\AVX_Card_Edge-293325.pdf; ContactReel: *; ComponentLink1Description: Supplier Link; ComponentLink1URL: http://www.mouser.com/ProductDetail/AVX/009159006551906/?qs=IYA7j3WQo68A6UaXX3SSZA%3D%3D; ContactBulk: *
footprint AVX_6P-2.00_Cardedge (Connector Card Edge 6pos 2mmp)
pins: 1, 2, 3, 4, 5, 6

## J006_200_Molex_53014-0610
designator J?, comment MicroBlade 6pos  Part Number: 53014-0610  Mate Housing: 51004-0600  ContactBulk: 50011-8100
Connector, header, 6pos, 2.00mm pitch MicroBlade; Manufacturer: Molex; ContactReel: 50011-8000; PackageDescription: SMT; Notes: *; HelpURL: C:\Dropbox\Component Datasheets\(J) Connectors\Molex_530140610_sd.pdf; ComponentLink1Description: Supplier Link; ComponentLink1URL: http://www.digikey.com/product-search/en?x=0&y=0&lang=en&site=us&KeyWords=53014-0610
footprint Molex_6P-2.00_53014-0610 (Connector Header 6pos 2mmp Vertical through hole)
pins: 1, 2, 3, 4, 5, 6

## J006_254_Molex_90120-0126
designator J?, comment Mate Housing: 90156-0146  ContactBulk: 90119-2109  (hidden comment: 90120-0126)
Connector, 6pos, 2.54mm pitch, header; Manufacturer: Molex; ContactReel: 90119-0109; PackageDescription: TH; Notes: *; HelpURL: http://www.mouser.com/ds/2/276/0901200126_PCB_HEADERS-230403.pdf; ComponentLink1Description: Supplier Link; ComponentLink1URL: http://www.mouser.com/ProductDetail/Molex/90120-0126/?qs=sGAEpiMZZMs%252bGHln7q6pm8NDWwBzqQCNVfhiECRxQg4%3d; Part Number: 90120-0126
footprint Generic_6P-2.54_Header (Connector; Header; 6 Position)
pins: 1, 2, 3, 4, 5, 6

## J006_254_PCB
designator J?, comment 2.54mm Pitch
Connector, 6pos, 2.54mm pitch, PCB no header; Notes: *; ComponentLink1Description: Supplier Link; Part Number: 2.54mm Pitch
footprint Generic_6P-2.54_NoHeader (Connector; Header; 6 Position)
pins: 1, 2, 3, 4, 5, 6

## J007_125_Molex_53780-0770
designator J?, comment PanelMate  Part Number: 53780-0770  Mate Housing: 51146-0700  ContactBulk: 50641-8141
Connector, header, 7pos, 1.25mm pitch; Manufacturer: Molex; ContactReel: 50641-8041; PackageDescription: SMT; Notes: *; HelpURL: C:\Dropbox\Component Datasheets\(J) Connectors\Molex_53780-xxxx.pdf; ComponentLink1Description: Supplier Link; ComponentLink1URL: http://www.digikey.com/product-detail/en/0537800770/WM7604CT-ND/699064
footprint Molex_7p-1.25_53780-0770 (Molex Panelmate Connector 7p 1.25mm pitch)
pins: 1, 2, 3, 4, 5, 6, 7

## J007_200_Molex_53014-0710
designator J?, comment MicroBlade 7pos  Part Number: 53014-0710  Mate Housing: 51004-0700  ContactBulk: 50011-8100
Connector, header, 7pos, 2.00mm pitch MicroBlade; Manufacturer: Molex; ContactReel: 50011-8000; PackageDescription: SMT; Notes: *; HelpURL: C:\Dropbox\Component Datasheets\(J) Connectors\Molex_530140610_sd.pdf; ComponentLink1Description: Supplier Link; ComponentLink1URL: http://www.digikey.com/product-search/en?vendor=0&keywords=53014-0710
footprint Molex_7P-2.00_53014-0710 (Connector Header 7pos 2mmp Vertical through hole)
pins: 1, 2, 3, 4, 5, 6, 7

## J008_005_MOLEX_0545480871
designator P*  Part Number: 0545480871  Manufacturer: MOLEX
Connector_Header_8pos_0.5mm pitch_Horizontal; Mate Housing: *; HelpURL: *; ContactReel: *; ContactBulk: *
footprint J008_002_Molex_0545480871 (Connector, Header, 8pos, 0.5mm pitch, Horizontal Flat Flex)
pins: 1, 2, 3, 4, 5, 6, 7, 8, 9, 10

## J008_10shell_Hirose_HR212-10R-8SD
designator J?, comment HR212 Minidin 8pos  Part Number: HR212-10R-8SD  Mate Housing: HR212-10LP-8P
Connector, Receptacle, Mini-DIN, 8pos, Vertical; Manufacturer: Hirose; PackageDescription: Through Hole; Notes: *; HelpURL: C:\Dropbox\Component Datasheets\(J) Connectors\Hirose_HR212-10R-8SD.pdf; ComponentLink1Description: Supplier Link; ComponentLink1URL: http://www.digikey.com/product-detail/en/HR212-10R-8SD(73)/HR1242-ND/1033631
footprint HIROSE_8P_HR212-10R-8SD (Connector Receptacle mini-din 10 shell 8 position)
pins: 1, 2, 3, 4, 5, 6, 7, 8, 9 GND

## J008_100_SAMTEC_T1M-04-GF-DV-K-TR
designator J*
Connector, Header, 8pos (4x2), 1.00mm Pitch, Samtec T1M
pins: 1, 2, 3, 4, 5, 6, 7, 8

## J008_110_Molex_47571-0001
designator J?, comment 47571-0001
Connector, MicroSD Card Edge, 8pos; Manufacturer: Molex; PackageDescription: SMT; Notes: *; HelpURL: C:\Dropbox\Component Datasheets\(J) Connectors\Molex_475710001_sd.pdf; ContactReel: *; ComponentLink1Description: Supplier Link; ComponentLink1URL: http://www.digikey.com/product-detail/en/0/WM9731CT-ND; Mate Housing: 47571-0001; ContactBulk: *; Part Number: 47571-0001
footprint Molex_MicroSD_0475710001 (CONN MICRO SD CARD PUSH-PULL R/A)
pins: 1, 2, 3, 4, 5, 6, 7, 8, G1 GND, G2 GND, G3 GND, G4 GND, G5 DET

## J008_110_Molex_47571-0001_PCB
designator J?, comment MicroSDCardEdge  Part Number: 47571-0001_PCB
Connector, MicroSD Card Edge, 8pos, PCB Side; Manufacturer: Molex; Mate Housing: 47571-0001; PackageDescription: SMT; Notes: *; HelpURL: C:\Dropbox\Component Datasheets\(J) Connectors\Molex_475710001_sd.pdf; ContactReel: *; ComponentLink1Description: Supplier Link; ComponentLink1URL: http://www.digikey.com/product-detail/en/0/WM9731CT-ND; ContactBulk: *
footprint Molex_8P_MicroSDCard_PCB (Connector Card Edge 8pos MicroSD)
pins: 1, 2, 3, 4, 5, 6, 7, 8

## J008_200_Molex_53014-0810
designator J?, comment MicroBlade 8pos  Part Number: 53014-0810  Mate Housing: 51004-0800  ContactBulk: 50011-8100
Connector, header, 8pos, 2.00mm pitch MicroBlade; Manufacturer: Molex; ContactReel: 50011-8000; PackageDescription: SMT; Notes: *; HelpURL: C:\Dropbox\Component Datasheets\(J) Connectors\Molex_530140610_sd.pdf; ComponentLink1Description: Supplier Link; ComponentLink1URL: http://www.digikey.com/product-search/en?vendor=0&keywords=53014-0810
footprint Molex_8P-2.00_53014-0810 (Connector Header 8pos 2mmp Vertical through hole)
pins: 1, 2, 3, 4, 5, 6, 7, 8

## J008_200_Samtec_T2M-104-01-L-D-SM
designator J?, comment Mate Housing: ISD2-04-D-M  ContactBulk: CC81L-2426-01-L  (hidden comment: T2M-104-01-L-D-SM-K-TR)
Connector, Header, 8pos (4x2), 2.00mm Pitch, Samtec T2M; ContactReel: CC81R-2426-01-L; PackageDescription: SMT; Notes: *; Manufacturer: Samtec; HelpURL: https://wwws.samtec.com/technical-specifications/default.aspx?seriesMaster=T2M; ComponentLink1Description: Supplier Link; Part Number: T2M-104-01-L-D-SM-K-TR
footprint Samtec_8P-2.00_T2M_SMT (Connector Header 8pos dual row 2.0mmp SMT)
pins: 1, 2, 3, 4, 5, 6, 7, 8

## J008_254_Clamshell
designator J?, comment clamshell8P
Connector, 8pos, 2.54mm pitch, clamshell; Manufacturer: Custom; Part Number: Custom_8p_2.54; PackageDescription: SMT; Notes: *; ContactReel: *; ComponentLink1Description: Supplier Link; ComponentLink1URL: *; Mate Housing: *; ContactBulk: *
footprint Custom_8p-Clamshell (Custom 8p for Clamshell)
pins: 1, 2, 3, 4, 5, 6, 7, 8

## J008_254_Molex_90130-1108
designator J?, comment 90130-1108  Mate Housing: 90142-0008  ContactBulk: 90119-2120
Connector, header, 8pos, 2.54mm pitch Dual Row, CGrid III; Manufacturer: Molex; ContactReel: 90119-0120; PackageDescription: TH; Notes: *; HelpURL: http://www.molex.com/pdm_docs/sd/901301108_sd.pdf; ComponentLink1Description: Supplier Link; ComponentLink1URL: http://www.digikey.com/product-detail/en/molex-llc/0901301108/WM8234-ND/760946; Part Number: 90130-1108
footprint Molex_8P-2.54_90130-1108 (Connector Header 8pos dual row 2.54mmp through hole)
pins: 1, 2, 3, 4, 5, 6, 7, 8

## J008_254_PCB
designator J?, comment 2.54Pitch PCB
Connector, PCB, 8pos, 2.54mm pitch (No Load); Manufacturer: NA; PackageDescription: TH; Notes: *; ComponentLink1Description: Supplier Link; Mate Housing: NA; Part Number: 2.54Pitch PCB
footprint Generic_8P-2.54_NoHeader (Connector; Header; 8 Position)
pins: 1, 2, 3, 4, 5, 6, 7, 8

## J009_274_FCI_D09P24A4GV00LF
designator J?, comment D09P24A4GV00LF  Mate Housing: DB9F
Connector, Dsub, 9pos, Male w/screws; Manufacturer: FCI; PackageDescription: TH; Notes: *; HelpURL: C:\Dropbox\Component Datasheets\(J) Connectors\FCI_DBconnectors.pdf; ContactReel: *; ComponentLink1Description: Supplier Link; ComponentLink1URL: http://www.digikey.com/product-detail/en/D09P24A4GV00LF/609-1479-ND/1001793; ContactBulk: *; Part Number: D09P24A4GV00LF
footprint DSUB_9P_MALE (D-SUB- 9P, MALE, STRAIGHT, TH)
pins: 1, 2, 3, 4, 5, 6, 7, 8, 9, 10 MH1, 11 MH2

## J009_274_FCI_D09S24A4GV00LF
designator J?, comment D09S24A4GV00LF  Mate Housing: DB9
Connector, Dsub, 9pos, Female w/screws; Manufacturer: FCI; PackageDescription: TH; Notes: *; HelpURL: C:\Dropbox\Component Datasheets\(J) Connectors\FCI_DBconnectors.pdf; ContactReel: *; ComponentLink1Description: Supplier Link; ComponentLink1URL: http://www.digikey.com/product-detail/en/D09S24A4GV00LF/609-1485-ND/1001799; ContactBulk: *; Part Number: D09S24A4GV00LF
footprint DSUB_9P_FEMALE (D-SUB- 9P, FEMALE, STRAIGHT, TH)
pins: 1, 2, 3, 4, 5, 6, 7, 8, 9, 10 MH1, 11 MH2

## J009_MicroSD_Molex-0475710001
designator J*, comment 47571-0001
Connector, MicroSD Card Holder, 9pos; Manufacturer: Molex; Part Number: 47571-0001; HelpURL: http://www.molex.com/molex/products/datasheet.jsp?part=active/0475710001_MEMORY_CARD_SOCKET.xml&channel=Products&Lang=en-US; ComponentLink1URL: http://www.digikey.com/product-detail/en/0475710001/WM9731TR-ND/3262277; ComponentLink1Description: Supplier Link; Package Description: MICRO SD CARD PUSH-PULL R/A
footprint J009_MicroSD_Molex-0475710001 (CONN MICRO SD CARD PUSH-PULL R/A)
pins: 1, 2, 3, 4, 5, 6, 7, 8, G1, G2, G3, G4, G5

## J010_127_Samtec_FTSH-105-01-L-DV-K
designator J?, comment FTSH-105-01-L-DV-K  Mate Housing: SFMC-10
Connector, header, 10pos, 1.27mm pitch, FTSH; Manufacturer: Samtec; ContactReel: NA; PackageDescription: SMT; Notes: *; ComponentLink1Description: Supplier Link; ComponentLink1URL: http://www.digikey.com/product-detail/en/FTSH-105-01-L-DV-K/SAM8799-ND/1875039; ContactBulk: NA; Part Number: FTSH-105-01-L-DV-K
footprint Samtec_10P-1.27_FTSH_SMT (Connector Header 10pos dual row 1.27mmp SMT)
pins: 1, 2, 3, 4, 5, 6, 7, 8, 9, 10

## J010_127_Samtec_SFML-105-01-L-D
designator J?, comment SFML-105-01-L-D  Mate Housing: TFML-105
Connector, header, 10pos, 1.27mm pitch, SFML; Manufacturer: Samtec; ContactReel: NA; PackageDescription: TH; Notes: *; HelpURL: C:\Dropbox\Component Datasheets\(J) Connectors\Samtec_sfml-1 datasheet.pdf; ComponentLink1Description: Manufacturer Link; ComponentLink1URL: https://www.samtec.com/technical-specifications/Default.aspx?SeriesMaster=SFML; ContactBulk: NA; Part Number: SFML-105-01-L-D
footprint Samtec_10P-1.27_SFML (Connector Header 10pos dual row 1.27mmp through hole)
pins: 1, 2, 3, 4, 5, 6, 7, 8, 9, 10

## J010_127_Samtec_TFML-105-01-L-D-RA
designator J?, comment TFML-105-01-L-D-RA  Mate Housing: SFML-105  ContactBulk: NA
Connector, header, 10pos, 1.27mm pitch, RA, TFM; Manufacturer: Samtec; PackageDescription: TH; Notes: *; HelpURL: C:\Dropbox\Component Datasheets\(J) Connectors\Samtec_tfml-1xx-xx-xxx-d.pdf; ContactReel: NA; ComponentLink1Description: Manufacturer Link; ComponentLink1URL: https://www.samtec.com/technical-specifications/Default.aspx?SeriesMaster=TFML; Part Number: TFML-105-01-L-D-RA
footprint Samtec_10P-1.27_RA_TFML-105 (Connector Header 10pos dual row 1.27mmp through hole)
pins: 1, 2, 3, 4, 5, 6, 7, 8, 9, 10

## J010_127_Samtec_TFML-105-01-S-D
designator J?, comment Mate Housing: SFML-105  ContactBulk: NA  (hidden comment: TFML-105-01-S-D)
Connector, header, 10pos, 1.27mm pitch, Vertical, TH; Manufacturer: Samtec; PackageDescription: Through Hole; Notes: *; HelpURL: http://suddendocs.samtec.com/prints/tfml-1xx-xx-xxx-d-xxx-mkt.pdf; ContactReel: NA; ComponentLink1Description: Manufacturer Link; ComponentLink1URL: https://www.samtec.com/products/tfml; Part Number: TFML-105-01-S-D
footprint Samtec_10P-1.27_TFML-105_TH (Connector Header 10pos dual row 1.27mmp Through Hole No Locking Clip)
pins: 1, 2, 3, 4, 5, 6, 7, 8, 9, 10

## J010_127_Samtec_TFML-105-02-S-D-LC
designator J?, comment Mate Housing: SFML-105  ContactBulk: NA  (hidden comment: TFML-105-02-S-D-LC)
Connector, header, 10pos, 1.27mm pitch, Vertical, TFML; Manufacturer: Samtec; PackageDescription: SMT; Notes: *; HelpURL: http://suddendocs.samtec.com/prints/tfml-1xx-xx-xxx-d-xxx-mkt.pdf; ContactReel: NA; ComponentLink1Description: Manufacturer Link; ComponentLink1URL: https://www.samtec.com/products/tfml; Part Number: TFML-105-02-S-D-LC
footprint Samtec_10P-1.27_TFML-105 (Connector Header 10pos dual row 1.27mmp surface mount)
pins: 1, 2, 3, 4, 5, 6, 7, 8, 9, 10

## J010_200_Molex_53014-1010
designator J?, comment MicroBlade 8pos  Part Number: 53014-1010  Mate Housing: 51004-1000  ContactBulk: 50011-8100
Connector, header, 10pos, 2.00mm pitch MicroBlade; Manufacturer: Molex; ContactReel: 50011-8000; PackageDescription: SMT; Notes: *; HelpURL: C:\Dropbox\Component Datasheets\(J) Connectors\Molex_530140610_sd.pdf; ComponentLink1Description: Supplier Link; ComponentLink1URL: http://www.digikey.com/product-search/en?vendor=0&keywords=53014-1010
footprint Molex_10P-2.00_53014-1010 (Connector Header 10pos 2mmp Vertical through hole)
pins: 1, 2, 3, 4, 5, 6, 7, 8, 9, 10

## J010_254_Molex_90130-1110
designator J?, comment C-Grid III  Part Number: 90130-1110  Mate Housing: 90142-0010  ContactBulk: 90119-2120
Connector, header, 10pos, 2.54mm pitch Dual Row, CGrid III; Manufacturer: Molex; ContactReel: 90119-0120; PackageDescription: TH; Notes: *; HelpURL: C:\Dropbox\Component Datasheets\(J) Connectors\Molex_530140610_sd.pdf; ComponentLink1Description: Supplier Link; ComponentLink1URL: http://www.digikey.com/product-search/en?x=0&y=0&lang=en&site=us&keywords=90130-1110
footprint Molex_10P-2.54_DR_90130-1110 (Connector Header 10pos dual row 2.54mmp through hole)
pins: 1, 2, 3, 4, 5, 6, 7, 8, 9, 10

## J012_040_Molex_BtB_503548-1220
designator J?, comment 503548-1220  Mate Housing: 503552-1220
Connector, Rcpt, BTB, 12pos, 0.4mm pitch; Manufacturer: Molex; PackageDescription: SMT; Notes: *; HelpURL: C:\Dropbox\Component Datasheets\(J) Connectors\Molex_5035480620_sd.pdf; ContactReel: *; ComponentLink1Description: Supplier Link; ComponentLink1URL: http://www.digikey.com/product-search/en?x=0&y=0&lang=en&site=us&keywords=503548-1220; ContactBulk: *; Part Number: 503548-1220
footprint Molex_12P-0.4_503548-1220 (Connector BtB 12pos 0.4mm SMT)
pins: 1, 2, 3, 4, 5, 6, 7, 8, 9, 10, 11, 12

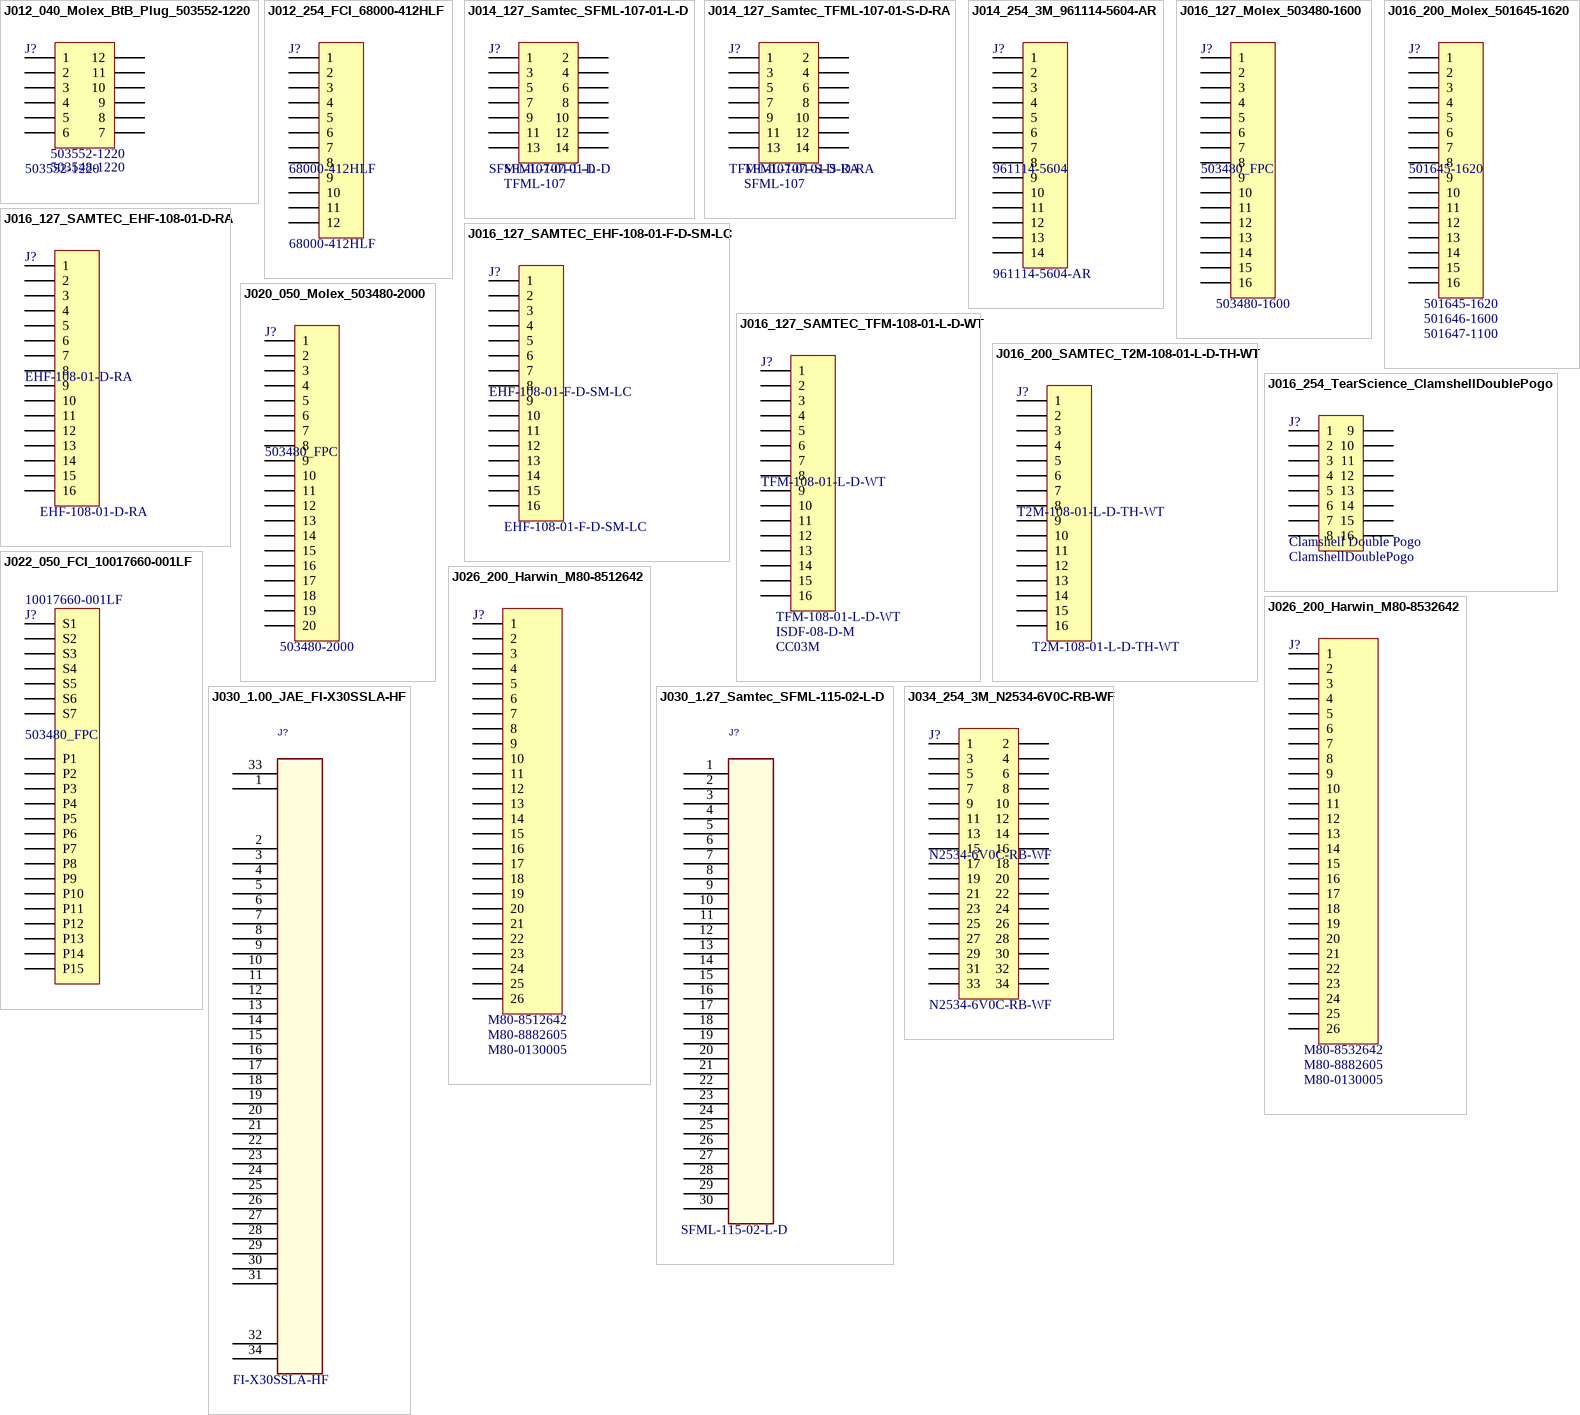
[diagram p2: symbols J012_040_Molex_BtB_Plug_503552-1220 to J034_254_3M_N2534-6V0C-RB-WF]

## J012_040_Molex_BtB_Plug_503552-1220
designator J?, comment 503552-1220  Mate Housing: 503548-1220
Connector, Rcpt, BTB, 12pos, 0.4mm pitch; Manufacturer: Molex; PackageDescription: SMT; Notes: *; HelpURL: C:\Dropbox\Component Datasheets\(J) Connectors\Molex_5035521220_sd.pdf; ContactReel: *; ComponentLink1Description: Supplier Link; ComponentLink1URL: http://www.digikey.com/product-search/en?x=0&y=0&lang=en&site=us&keywords=503552-1220; ContactBulk: *; Part Number: 503552-1220
footprint Molex_12P-0.4_503552-005 (Connector BtB 12pos 0.4mm SMT)
pins: 1, 2, 3, 4, 5, 6, 7, 8, 9, 10, 11, 12

## J012_254_FCI_68000-412HLF
designator J?, comment 68000-412HLF
Connector, 12pos, 2.54mm pitch, RA header, TH; Manufacturer: FCI; ContactReel: NA; PackageDescription: TH; Notes: *; HelpURL: C:\Dropbox\Component Datasheets\(J) Connectors\FCI_68000-412HLF.pdf; ComponentLink1Description: Supplier Link; ComponentLink1URL: http://www.digikey.com/product-search/en?WT.z_header=search_go&lang=en&site=us&keywords=609-3266-ND&x=0&y=0&formaction=on; Mate Housing: NA; ContactBulk: NA; Part Number: 68000-412HLF
footprint Generic_12P-2.54 (Connector; Header; 12 Position)
pins: 1, 2, 3, 4, 5, 6, 7, 8, 9, 10, 11, 12

## J014_127_Samtec_SFML-107-01-L-D
designator J?, comment SFML-107-01-L-D  Mate Housing: TFML-107
Connector, header, 14pos, 1.27mm pitch, SFML; Manufacturer: Samtec; ContactReel: NA; PackageDescription: TH; Notes: *; HelpURL: C:\Dropbox\Component Datasheets\(J) Connectors\Samtec_sfml-1 datasheet.pdf; ComponentLink1Description: Manufacturer Link; ComponentLink1URL: https://www.samtec.com/technical-specifications/Default.aspx?SeriesMaster=SFML; ContactBulk: NA; Part Number: SFML-107-01-L-D
footprint Samtec_14P-1.27_SFML (Connector Header 14pos dual row 1.27mmp through hole)
pins: 1, 2, 3, 4, 5, 6, 7, 8, 9, 10, 11, 12, 13, 14

## J014_127_Samtec_TFML-107-01-S-D-RA
designator J?, comment TFML-107-01-S-D-RA  Mate Housing: SFML-107
Connector, header, 14pos, 1.27mm pitch, TFML; Manufacturer: Samtec; ContactReel: NA; PackageDescription: TH; Notes: *; HelpURL: C:\Dropbox\Component Datasheets\(J) Connectors\Samtec_sfml-1 datasheet.pdf; ComponentLink1Description: Manufacturer Link; ComponentLink1URL: https://www.samtec.com/technical-specifications/Default.aspx?SeriesMaster=SFML; ContactBulk: NA; Part Number: TFML-107-01-S-D-RA
footprint Samtec_14P-1.27_RA_TFML-107 (Connector Header 14pos dual row 1.27mmp through hole)
pins: 1, 2, 3, 4, 5, 6, 7, 8, 9, 10, 11, 12, 13, 14

## J014_254_3M_961114-5604-AR
designator J?, comment 961114-5604  Part Number: 961114-5604-AR
Connector, 14pos, 2.54mm pitch, RA header, TH; Manufacturer: 3M; ContactReel: NA; PackageDescription: TH; Notes: *; HelpURL: C:\Dropbox\Component Datasheets\(J) Connectors\3M_961114-5604-AR.pdf; ComponentLink1Description: Supplier Link; ComponentLink1URL: http://www.digikey.com/product-search/en?WT.z_header=search_go&lang=en&site=us&keywords=3M9473-ND&x=0&y=0&formaction=on; Mate Housing: NA; ContactBulk: NA
footprint Generic_14P-2.54 (Connector; Header; 14 Position)
pins: 1, 2, 3, 4, 5, 6, 7, 8, 9, 10, 11, 12, 13, 14

## J016_127_Molex_503480-1600
designator J?, comment 503480_FPC  Part Number: 503480-1600
Connector, FPC 16pos, 0.5mm pitch, Dual Contact, SMT; Manufacturer: Molex; ContactReel: NA; PackageDescription: SMT; Notes: *; HelpURL: C:\Dropbox\Component Datasheets\(J) Connectors\Molex_5034802000_sd.pdf; ComponentLink1Description: Supplier Link; ComponentLink1URL: http://www.digikey.com/product-detail/en/5034801600/WM1443CT-ND/2356646; Mate Housing: NA; ContactBulk: NA
footprint Molex_16P-0.5_50348-1600 (Connector Header FFC/FPC 16pos 0.5mm RA SMT)
pins: 1, 2, 3, 4, 5, 6, 7, 8, 9, 10, 11, 12, 13, 14, 15, 16

## J016_127_SAMTEC_EHF-108-01-D-RA
designator J?, comment EHF-108-01-D-RA
Connector, IDC Header 16pos, 50mil pitch, ThruHole-RA; Manufacturer: SamTec; ContactReel: NA; Mate Housing: FFSD-08-D-XX.XX-1-N; PackageDescription: SMT; Notes: *; HelpURL: http://suddendocs.samtec.com/catalog_english/ehf.pdf; ComponentLink1Description: Supplier Link; ContactBulk: NA; Part Number: EHF-108-01-D-RA
footprint SAMTEC_EHF-108-01-D-RA
pins: 1, 2, 3, 4, 5, 6, 7, 8, 9, 10, 11, 12, 13, 14, 15, 16

## J016_127_SAMTEC_EHF-108-01-F-D-SM-LC
designator J?, comment EHF-108-01-F-D-SM-LC
Connector, IDC Header 16pos, 50mil pitch, SMT Straight; Manufacturer: SamTec; ContactReel: NA; Mate Housing: FFSD-08-D-XX.XX-1-N; PackageDescription: SMT; Notes: *; HelpURL: http://suddendocs.samtec.com/catalog_english/ehf.pdf; ComponentLink1Description: Supplier Link; ContactBulk: NA; Part Number: EHF-108-01-F-D-SM-LC
footprint SAMTEC_EHF-108-01-XX-D-SM-LC
pins: 1, 2, 3, 4, 5, 6, 7, 8, 9, 10, 11, 12, 13, 14, 15, 16

## J016_127_SAMTEC_TFM-108-01-L-D-WT
designator J?, comment TFM-108-01-L-D-WT  Mate Housing: ISDF-08-D-M  ContactBulk: CC03M
Connector, header w/weld tabs, 16pos,  1.27mm pitch, Vert, ThruHole; Manufacturer: SamTec; ContactReel: NA; PackageDescription: Through hole; Notes: *; HelpURL: http://suddendocs.samtec.com/prints/tfm-1xx-xx-xxx-d-xxx-mkt.pdf; ComponentLink1Description: Supplier Link; ComponentLink1URL: https://www.samtec.com/products/tfm; Part Number: TFM-108-01-L-D-WT
pins: 1, 2, 3, 4, 5, 6, 7, 8, 9, 10, 11, 12, 13, 14, 15, 16

## J016_200_Molex_501645-1620
designator J?, comment 501645-1620  Mate Housing: 501646-1600  ContactBulk: 501647-1100
Connector, header w/latch, 16pos,  2.00mm pitch, Vert, ThruHole; Manufacturer: Molex; ContactReel: 501647-1000; PackageDescription: Through hole; Notes: *; HelpURL: http://www.molex.com/pdm_docs/sd/5016451020_sd.pdf; ComponentLink1Description: Supplier Link; ComponentLink1URL: http://www.digikey.com/product-search/en?keywords=501645-1620; Part Number: 501645-1620
footprint Molex_16P-2.00_501645-1620 (Connector Header 16pos dual row 2.00mmp through hole)
pins: 1, 2, 3, 4, 5, 6, 7, 8, 9, 10, 11, 12, 13, 14, 15, 16

## J016_200_SAMTEC_T2M-108-01-L-D-TH-WT
designator J?, comment T2M-108-01-L-D-TH-WT
Connector, header w/weld tabs, 16pos,  2.00mm pitch, Vert, ThruHole; Manufacturer: SamTec; ContactReel: NA; PackageDescription: Through hole; Notes: *; HelpURL: http://suddendocs.samtec.com/prints/t2m-1xx-xx-x-d-xx-xx-mkt.pdf; ComponentLink1Description: Supplier Link; ComponentLink1URL: https://www.samtec.com/products/t2m; ContactBulk: NA; Part Number: T2M-108-01-L-D-TH-WT
footprint SAMTEC_16P-2.00_T2M-107-01-X-D-TH-WT
pins: 1, 2, 3, 4, 5, 6, 7, 8, 9, 10, 11, 12, 13, 14, 15, 16

## J016_254_TearScience_ClamshellDoublePogo
designator J?, comment Clamshell Double Pogo  Part Number: ClamshellDoublePogo
Connector, TearScienc 6pos, 2.54mm pitch, Dual Contact; Manufacturer: TearScience; ContactReel: NA; PackageDescription: SMT; Notes: *; ComponentLink1Description: Supplier Link; Mate Housing: NA; ContactBulk: NA
footprint Custom_16p-Clamshell-Reverse Kelvin (Custom 8p for Clamshell)
pins: 1, 2, 3, 4, 5, 6, 7, 8, 9, 10, 11, 12, 13, 14, 15, 16

## J020_050_Molex_503480-2000
designator J?, comment 503480_FPC  Part Number: 503480-2000
Connector, FPC 20pos, 0.5mm pitch, Dual Contact, SMT; Manufacturer: Molex; ContactReel: NA; PackageDescription: SMT; Notes: *; HelpURL: C:\Dropbox\Component Datasheets\(J) Connectors\Molex_5034802000_sd.pdf; ComponentLink1Description: Supplier Link; ComponentLink1URL: http://www.digikey.com/product-detail/en/5034802000/WM1445TR-ND/2356628; Mate Housing: NA; ContactBulk: NA
footprint Molex_20P-0.5_50348-2000 (Connector Header FFC/FPC 20pos 0.5mm RA SMT)
pins: 1, 2, 3, 4, 5, 6, 7, 8, 9, 10, 11, 12, 13, 14, 15, 16, 17, 18, 19, 20